# Altium schematic symbol library AltiumDesigner.SchLib: 2 symbols
Pins are listed as number, name and electrical type; pins without a type are passive.

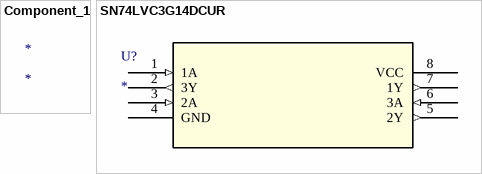
[diagram p0: symbols Component_1 to SN74LVC3G14DCUR]

## Component_1
designator *

## SN74LVC3G14DCUR
designator U?
Imported; Manufacturer_Part_Number: SN74LVC3G14DCUR; GENERIC_PART_NUMBER: SN74LVC3G14; Vendor: Texas Instruments; PACKAGE_DESIGNATOR: DCU; PIN_COUNT: 8; FAMILY_NAME: LL INVERTER; INDUSTRY_STD_PKG_TYPE: US8; 3D_Library_Name: TI_AllParts_2012-12-25; C: Copyright (C) 2015 Accelerated Designs. All rights reserved; Copyright: Copyright (C) 2015 Accelerated Designs. All rights reserved; Datasheet_URL: http://www.ti.com/lit/gpn/SN74LVC3G14; Manufacturer: Texas Instruments; Value: Value; Type: Type; RefDes: RefDes
footprint DCU8
pins: 1 1A (in), 2 3Y (out), 3 2A (in), 4 GND (power), 5 2Y (out), 6 3A (in), 7 1Y (out), 8 VCC (power)